# Altium footprint library Fuse1206.PcbLib: 1 footprints
Each footprint in its own frame and in the unit in brackets; x right, y up, seen from the top. Pads: shape width x height; smd on the part's side, far side on the other; paste and mask are expansions set on the pad; w line width, h text height; cw(c..) or ccw(c..) is an arc to the next point about the centre after c.
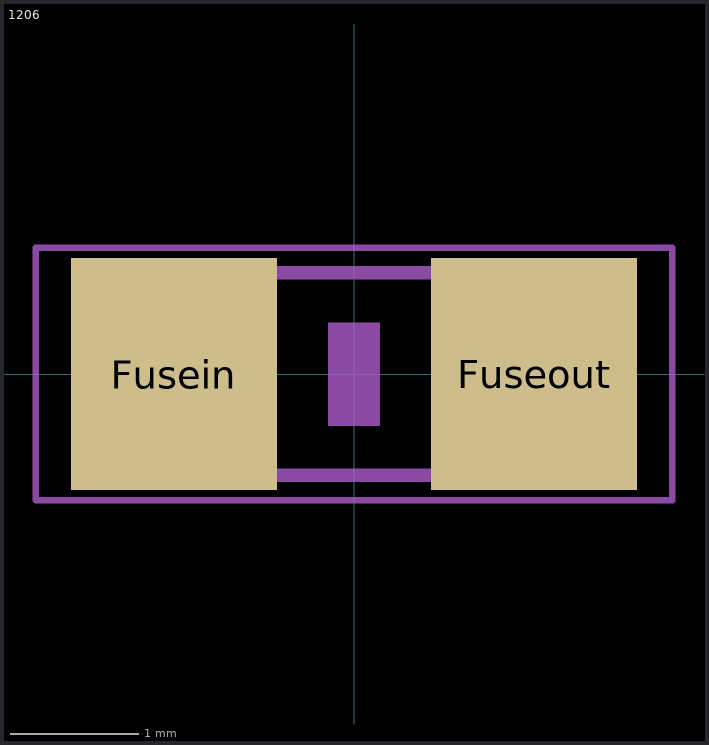
[diagram p0: the footprint, top view; thin cyan lines are the x and y axes]

## 1206 [mm]
pads (2):
  rect 1.6x1.8 smd: Fusein(-1.4,0) Fuseout(1.4,0)
Mechanical 1:
  region: -0.2,0.4 0.2,0.4 0.2,-0.401 -0.2,-0.401
  region: 0.953,0.851 1.702,0.851 1.702,-0.85 0.953,-0.85
  region: -1.702,0.849 -0.952,0.849 -0.952,-0.851 -1.702,-0.851
  lines w0.051: -2.473,-0.983 -2.473,0.983 2.473,0.983 2.473,-0.983 -2.473,-0.983
  lines w0.102: -0.965,-0.787 0.965,-0.787 ; -0.965,0.787 0.965,0.787